# Altium footprint library Custom.PcbLib: 48 footprints (part 3 of 3)
Each footprint in its own frame and in the unit in brackets; x right, y up, seen from the top. Pads: shape width x height; smd on the part's side, far side on the other; paste and mask are expansions set on the pad; w line width, h text height; cw(c..) or ccw(c..) is an arc to the next point about the centre after c.
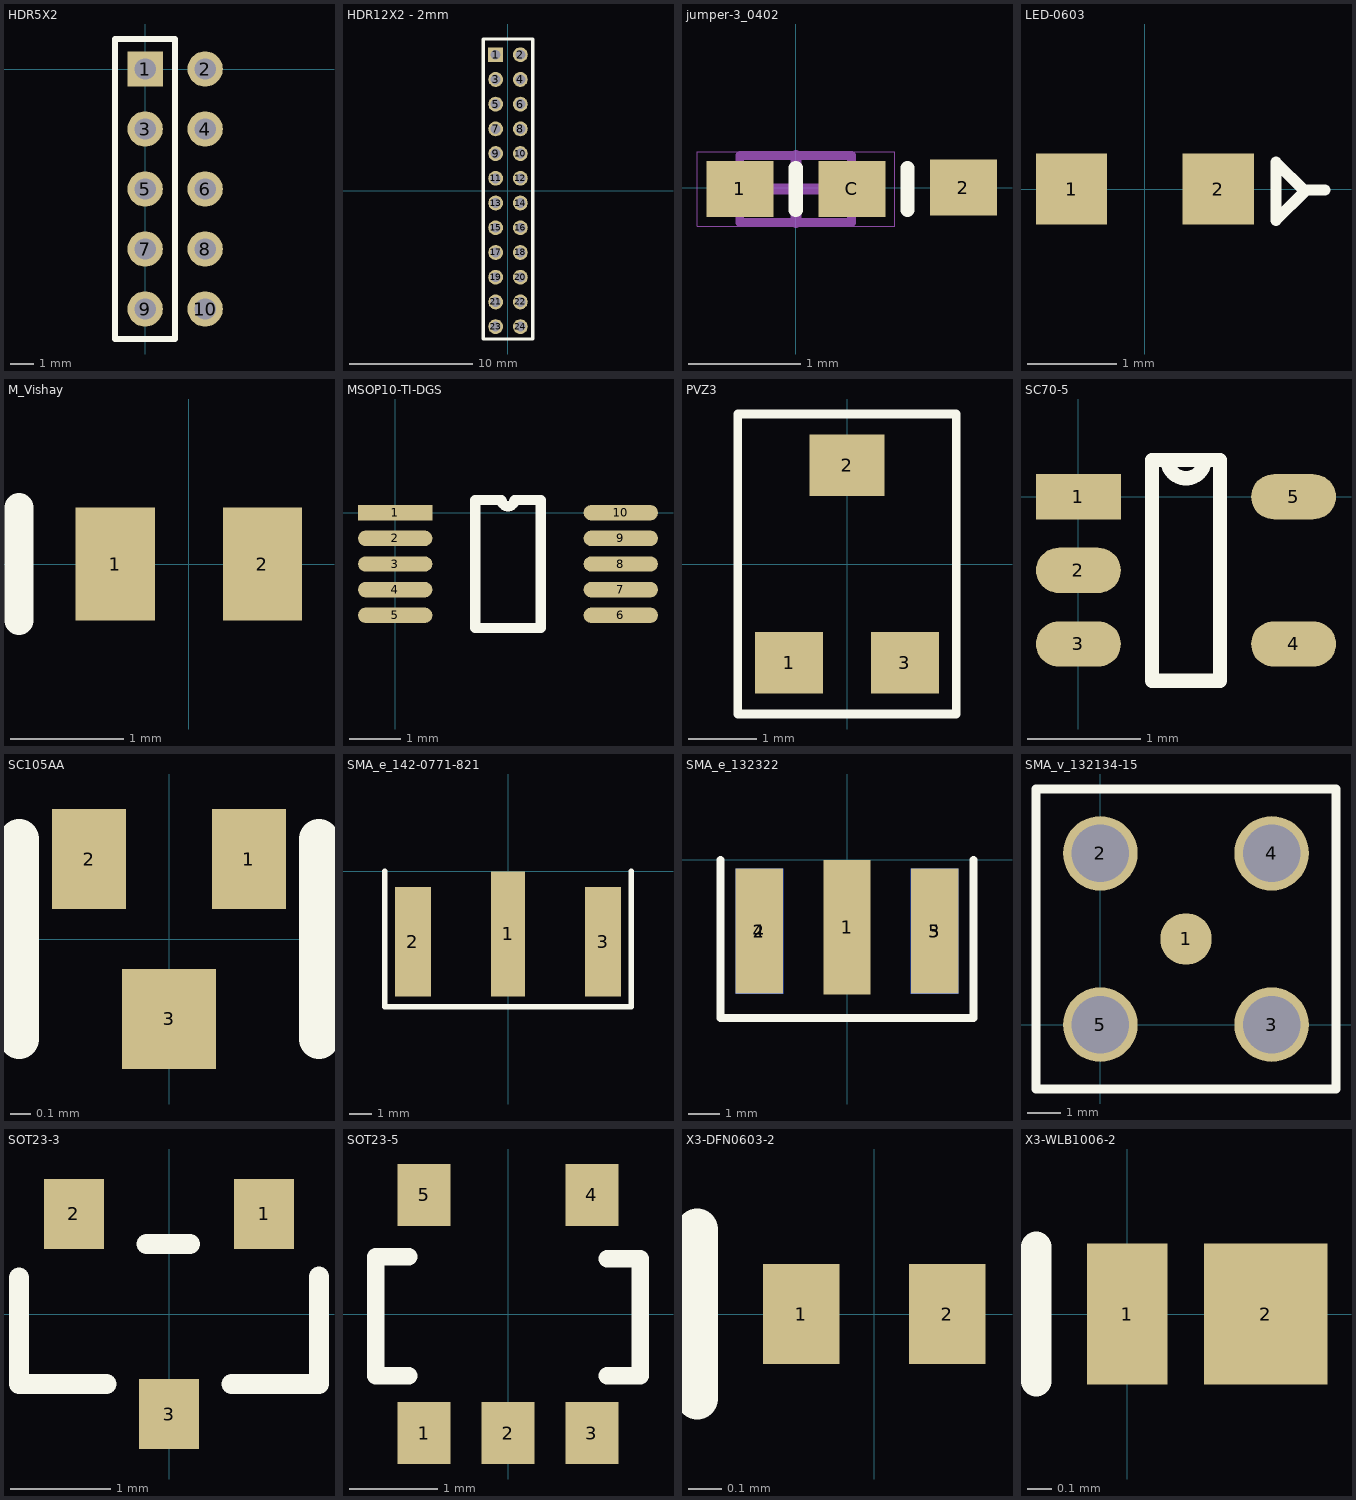
[diagram p2: the footprints below, top view; thin cyan lines are the x and y axes]

## HDR5X2 [mm] "Connector; Header; 10 Position, 100mil pitch"
pads (10):
  rect 1.5x1.5 hole 0.9: 1(0,0)
  round 1.5 hole 0.9: 2(2.54,0) 3(0,-2.54) 4(2.54,-2.54) 5(0,-5.08) 6(2.54,-5.08) 7(0,-7.62) 8(2.54,-7.62) 9(0,-10.16) 10(2.54,-10.16)
Top Overlay:
  lines w0.254: -1.27,-11.43 -1.27,1.27 1.27,1.27 1.27,-11.43 -1.27,-11.43

## HDR12X2 - 2mm [mm] "Connector; Header; 24 Position, 2mm pitch"
pads (24):
  rect 1.2x1.2 hole 0.8: 1(-1,11)
  round 1.2 hole 0.8: 2(1,11) 3(-1,9) 4(1,9) 5(-1,7) 6(1,7) 7(-1,5) 8(1,5) 9(-1,3) 10(1,3) 11(-1,1) 12(1,1) 13(-1,-1) 14(1,-1) 15(-1,-3) 16(1,-3) 17(-1,-5) 18(1,-5) 19(-1,-7) 20(1,-7) 21(-1,-9) 22(1,-9) 23(-1,-11) 24(1,-11)
Top Overlay:
  lines w0.254: -2,-12 -2,12.27 2,12.27 2,-12 -2,-12

## jumper-3_0402 [mm]
pads (3):
  rect 0.6x0.5 smd mask+0.09: 1(-0.498,-0.011) 2(1.5,0) C(0.502,-0.011)
Top Overlay:
  lines w0.127: 0,-0.2 0,0.175 ; 1,-0.2 1,0.175
Mechanical 13:
  lines w0.08: -0.5,-0.311 -0.5,0.289 0.5,0.289 0.5,-0.311 -0.5,-0.311
Mechanical 15:
  lines w0.01: -0.882,-0.346 -0.882,0.322 0.885,0.322 0.885,-0.346 -0.882,-0.346
  lines w0.1: -0.298,-0.011 0.302,-0.011 ; 0.002,-0.311 0.002,0.289
3D body: height 0.7, standoff 0, extent -0.5,-0.312 0.5,0.288

## LED-0603 [mm]
pads (2):
  rect 0.8x0.8 smd: 1(-0.825,0) 2(0.825,0)
Top Overlay:
  region: 2.15,-0.1
  region: 2.15,-0.1
  region: 2.15,-0.1
  region: 2.15,-0.1
  region: 2.15,-0.1
  lines w0.127: 2.025,-0.012 1.869,-0.012 1.817,-0.012 1.8,-0.025 ; 1.8,-0.025 1.475,0.3 1.475,-0.35 1.8,-0.025
3D body: height 0.4, standoff 0, extent -0.914,-0.356 -0.457,0.356
3D body: height 0.4, standoff 0, extent 0.483,-0.356 0.94,0.356
3D body: height 0.4, standoff 0, extent -0.61,-0.356 0.61,0.356

## M_Vishay [mm] "Vishay footprint for M size tantalum cap"
pads (2):
  rect 0.7x1 smd: 1(-0.65,0) 2(0.65,0)
Top Overlay:
  lines w0.254: -1.5,-0.5 -1.5,0.5

## MSOP10-TI-DGS [mm]
pads (10):
  rect 1.45x0.3 smd: 1(0,0)
  oval 1.45x0.3 smd: 2(0,-0.5) 3(0,-1) 4(0,-1.5) 5(0,-2) 6(4.4,-2) 7(4.4,-1.5) 8(4.4,-1) 9(4.4,-0.5) 10(4.4,0)
Top Overlay:
  lines w0.2: 1.56,-2.25 2.84,-2.25 2.84,0.25 2.325,0.25 cw(c2.2,0.25) 2.075,0.25 1.56,0.25 1.56,-2.25
3D body: height 0.8, standoff 0, extent 0.2,-2.5 4.2,0.281

## PVZ3 [mm]
pads (3):
  rect 1x0.9 smd: 1(-0.85,-1.45) 3(0.85,-1.45)
  rect 1.1x0.9 smd: 2(0,1.45)
Top Overlay:
  lines w0.127: -1.6,-2.2 -1.6,-1 -1.6,2.2 -0.8,2.2 0.8,2.2 1.6,2.2 1.6,-2.2 -1.6,-2.2
3D body: height 1.5, standoff 0, extent -1.4,-1.8 1.4,1.8

## SC70-5 [mm]
pads (5):
  rect 0.75x0.4 smd: 1(0,0)
  oval 0.75x0.4 smd: 2(0,-0.65) 3(0,-1.3) 4(1.9,-1.3) 5(1.9,0)
Top Overlay:
  lines w0.127: 0.65,-1.625 0.65,0.325 1.112,0.325 cw(c0.95,0.325) 0.787,0.325 1.25,0.325 1.25,-1.625 0.65,-1.625
3D body: height 0.8, standoff 0, extent 0,-1.7 1.919,0.381

## SC105AA [mm]
pads (3):
  rect 0.37x0.5 smd: 1(0.4,0.4) 2(-0.4,0.4)
  rect 0.47x0.5 smd: 3(0,-0.4)
Top Overlay:
  lines w0.2: -0.75,-0.5 -0.75,0.5 ; 0.75,-0.5 0.75,0.5
3D body: height 0.8, standoff 0, extent -0.75,-0.5 0.75,0.5

## SMA_e_142-0771-821 [mm] "Edge launch SMA connector for Cinch (Emerson) P/N 142-0771-821"
pads (3):
  rect 1.5x5.6 smd: 1(0,-2.8)
  rect 1.6x4.9 smd: 2(-4.25,-3.15) 3(4.25,-3.15)
Top Overlay:
  lines w0.254: -5.5,0 -5.5,-6.051 5.467,-6.051 5.5,-6.051 5.5,0

## SMA_e_132322 [mm] "Edge launch SMA connector for Amphenol P/N 132322"
pads (5):
  rect 1.5x4.25 smd: 1(0,-2.125)
  rect 1.5x3.95 smd: 2(-2.77,-2.25) 3(2.77,-2.25)
  rect 1.5x3.95 smd far side: 4(-2.77,-2.25) 5(2.77,-2.25)
Top Overlay:
  lines w0.254: -4,0 -4,-5 2.13,-5 4,-5 4,0

## SMA_v_132134-15 [mil]
pads (5):
  round 60 smd: 1(100,100)
  round 87 hole 67: 2(0,200) 3(200,0) 4(200,200) 5(0,0)
Top Overlay:
  lines w10: -75,-75 -75,275 275,275 275,-75 -75,-75

## SOT23-3 [mm]
pads (3):
  rect 0.6x0.7 smd: 1(0.95,1) 2(-0.95,1) 3(0,-1)
Top Overlay:
  lines w0.2: -1.5,0.363 -1.5,-0.7 -0.625,-0.7 ; -0.225,0.7 0.212,0.7 ; 0.625,-0.7 1.5,-0.7 1.5,0.375
3D body: height 0.8, standoff 0, extent -1.5,-0.7 1.5,0.7

## SOT23-5 [mm]
pads (5):
  rect 0.6x0.7 smd: 1(-0.95,-1.35) 2(0,-1.35) 3(0.95,-1.35) 4(0.95,1.35) 5(-0.95,1.35)
Top Overlay:
  lines w0.2: -1.125,-0.7 -1.5,-0.7 -1.5,0.65 -1.125,0.65 ; 1.125,-0.7 1.5,-0.7 1.5,0.625 1.125,0.625

## X3-DFN0603-2 [mm]
pads (2):
  rect 0.23x0.3 smd: 1(-0.22,0) 2(0.22,0)
Top Overlay:
  lines w0.127: -0.533,-0.254 -0.533,0.254

## X3-WLB1006-2 [mm]
pads (2):
  rect 0.332x0.579 smd paste-0.05 mask+0.05: 1(0,0)
  rect 0.507x0.579 smd paste-0.05 mask+0.05: 2(0.57,0)
Top Overlay:
  lines w0.127: -0.375,-0.275 -0.375,0.275